# Altium footprint library Air_PCB.PcbLib: 8 footprints
Each footprint in its own frame and in the unit in brackets; x right, y up, seen from the top. Pads: shape width x height; smd on the part's side, far side on the other; paste and mask are expansions set on the pad; w line width, h text height; cw(c..) or ccw(c..) is an arc to the next point about the centre after c.
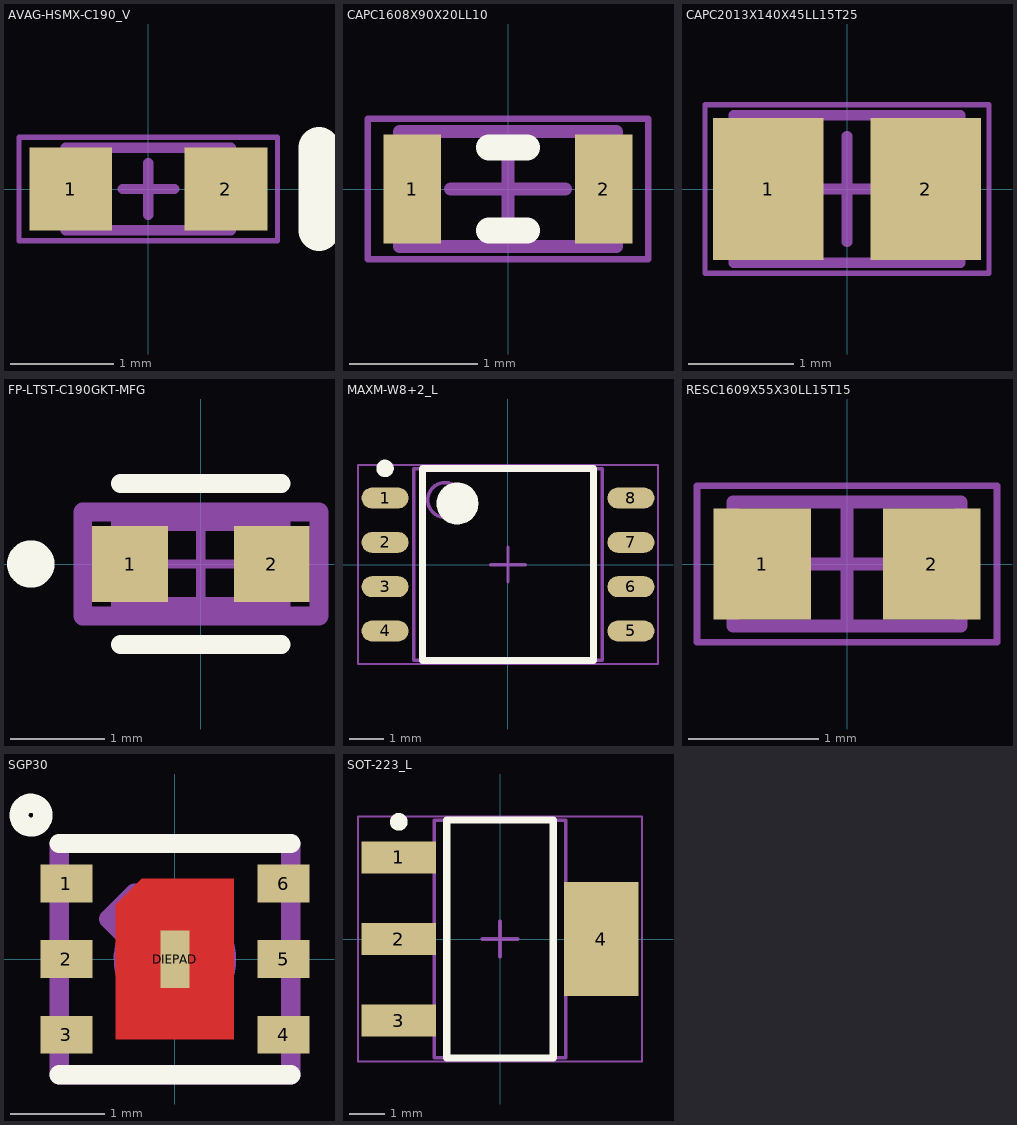
[diagram p0: the footprints below, top view; thin cyan lines are the x and y axes]

## AVAG-HSMX-C190_V [mm] "SMD, 2-Leads, Body 1.6x0.8mm, Height 0.9mm"
height 0.9
pads (2):
  rect 0.8x0.8 smd: 1(-0.75,0) 2(0.75,0)
Top Overlay:
  lines w0.4: 1.65,-0.4 1.65,0.4
Mechanical 13:
  lines w0.1: -0.8,-0.4 0.8,-0.4 0.8,0.4 -0.8,0.4 -0.8,-0.4
Mechanical 15:
  lines w0.05: -1.25,-0.5 -1.25,0.5 1.25,0.5 1.25,-0.5 -1.25,-0.5
  lines w0.1: -0.25,0 0.25,0 ; 0,-0.25 0,0.25
3D body: height 0.4, standoff 0, extent -0.546,-0.419 1.054,0.381
3D body: height 0.9, standoff 0.4, extent -0.55,-0.4 0.55,0.4

## CAPC1608X90X20LL10 [mm] "Chip Capacitor, 2-Leads, Body 1.70x0.90mm, IPC High Density"
height 0.9
pads (2):
  rect 0.45x0.85 smd: 1(-0.75,0) 2(0.75,0)
Top Overlay:
  lines w0.2: -0.15,-0.325 0.15,-0.325 ; -0.15,0.325 0.15,0.325
Mechanical 13:
  lines w0.1: -0.85,-0.45 -0.85,0.45 0.85,0.45 0.85,-0.45 -0.85,-0.45
Mechanical 15:
  lines w0.05: -1.1,-0.55 -1.1,0.55 1.1,0.55 1.1,-0.55 -1.1,-0.55
  lines w0.1: -0.45,0 0.45,0 ; 0,-0.45 0,0.45
3D body: height 0.9, standoff 0, extent -0.65,-0.45 0.65,0.45
3D body: height 0.9, standoff 0, extent -0.85,-0.45 -0.65,0.45
3D body: height 0.9, standoff 0, extent 0.65,-0.45 0.85,0.45

## CAPC2013X140X45LL15T25 [mm] "Chip Capacitor, 2-Leads, Body 2.00x1.25mm, IPC High Density"
height 1.4
pads (2):
  rect 1.05x1.35 smd: 1(-0.75,0) 2(0.75,0)
Mechanical 13:
  lines w0.1: -1.075,-0.7 -1.075,0.7 1.075,0.7 1.075,-0.7 -1.075,-0.7
Mechanical 15:
  lines w0.05: -1.35,-0.8 -1.35,0.8 1.35,0.8 1.35,-0.8 -1.35,-0.8
  lines w0.1: -0.5,0 0.5,0 ; 0,-0.5 0,0.5
3D body: height 1.4, standoff 0, extent -0.625,-0.7 0.625,0.7
3D body: height 1.4, standoff 0, extent -1.075,-0.7 -0.625,0.7
3D body: height 1.4, standoff 0, extent 0.625,-0.7 1.075,0.7

## FP-LTST-C190GKT-MFG [mm]
pads (2):
  rect 0.8x0.8 smd paste+0 mask+0: 1(-0.75,0) 2(0.75,0)
Top Overlay:
  circle w0.25: c-1.8,0 r0.125
  lines w0.2: -0.85,-0.85 0.85,-0.85 ; -0.85,0.85 0.85,0.85
Top 3D Body:
  lines w0.2: -0.85,-0.45 0.85,-0.45 0.85,0.45 -0.85,0.45 -0.85,-0.45
Top Courtyard:
  lines w0.2: -1.25,-0.55 1.25,-0.55 1.25,0.55 -1.25,0.55 -1.25,-0.55
Top Assembly:
  lines w0.2: -1.25,-0.55 1.25,-0.55 1.25,0.55 -1.25,0.55 -1.25,-0.55
  text ".Designator" at 0,0 h1
Top Component Center:
  lines w0.1: -0.5,0 0.5,0 ; 0,-0.5 0,0.5
3D body "Diode_Lite-On_LTST-C190GKT_eec.STEP": height 0.25, standoff 0, extent -1.25,-0.55 1.25,0.55

## MAXM-W8+2_L [mm] "SOIC, 8-Leads, Body 5.31x5.285mm, Pitch 1.27mm, IPC High Density"
height 2.13
pads (8):
  oval 1.35x0.6 smd: 1(-3.525,1.905) 2(-3.525,0.635) 3(-3.525,-0.635) 4(-3.525,-1.905) 5(3.525,-1.905) 6(3.525,-0.635) 7(3.525,0.635) 8(3.525,1.905)
Top Overlay:
  circle w0.6: c-1.45,1.75 r0.3
  circle w0.25: c-3.525,2.755 r0.125
  lines w0.2: -2.45,-2.75 2.45,-2.75 2.45,2.75 -2.45,2.75 -2.45,-2.75
Mechanical 13:
  circle w0.1: c-1.8,1.85 r0.5
  lines w0.1: -2.7,-2.75 2.7,-2.75 2.7,2.75 -2.7,2.75 -2.7,-2.75
Mechanical 15:
  lines w0.05: -4.3,-2.85 4.3,-2.85 4.3,2.85 -4.3,2.85 -4.3,-2.85
  lines w0.1: -0.5,0 0.5,0 ; 0,-0.5 0,0.5
3D body: height 2.13, standoff 0.05, extent -2.7,-2.75 2.7,2.75

## RESC1609X55X30LL15T15 [mm] "Chip Resistor, 2-Leads, Body 1.75x0.95mm, IPC High Density"
height 0.55
pads (2):
  rect 0.75x0.85 smd: 1(-0.65,0) 2(0.65,0)
Mechanical 13:
  lines w0.1: -0.875,-0.475 -0.875,0.475 0.875,0.475 0.875,-0.475 -0.875,-0.475
Mechanical 15:
  lines w0.05: -1.15,-0.6 -1.15,0.6 1.15,0.6 1.15,-0.6 -1.15,-0.6
  lines w0.1: -0.475,0 0.475,0 ; 0,-0.475 0,0.475
3D body "RESC1608X06L.step": height 0.55, standoff 0, extent -0.875,-0.475 0.875,0.475

## SGP30 [mm]
pads (7):
  rect 0.55x0.4 smd paste-1: 1(-1.15,0.8) 2(-1.15,0) 3(-1.15,-0.8) 4(1.15,-0.8) 5(1.15,0) 6(1.15,0.8)
  rect 0.305x0.61 smd paste-1 mask+0: DIEPAD(0,0)
Top Layer:
  region: 0.625,-0.85 -0.625,-0.85 -0.625,0.575 -0.35,0.85 0.625,0.85
Top Overlay:
  circle w0.203: c-1.524,1.524 r0.127
  lines w0.203: -1.225,-1.225 1.225,-1.225 ; -1.225,1.225 1.225,1.225
Top Paste:
  region: -0.975,0.6 -1.525,0.6 -1.525,1 -0.975,1
  region: -0.975,-0.2 -1.525,-0.2 -1.525,0.2 -0.975,0.2
  region: -0.975,-1 -1.525,-1 -1.525,-0.6 -0.975,-0.6
  region: 1.525,0.6 0.975,0.6 0.975,1 1.525,1
  region: 1.525,-0.2 0.975,-0.2 0.975,0.2 1.525,0.2
  region: 1.525,-1 0.975,-1 0.975,-0.6 1.525,-0.6
  region: 0.3,-0.425 -0.3,-0.425 -0.3,0.425 0.3,0.425
Top Solder:
  region: 0.725,-0.95 -0.725,-0.95 -0.725,0.625 -0.4,0.95 0.725,0.95
Mechanical 13:
  lines w0.203: -0.525,0.25 -0.7,0.425 -0.425,0.7 -0.225,0.5 ; -0.501,0.223 ccw(c0,0) -0.223,0.501 ; -1.225,-1.225 1.225,-1.225 1.225,1.225 -1.225,1.225 -1.225,-1.225

## SOT-223_L [mm] "SOT223, 4-Leads, Body 6.5x3.5mm, Pitch 2.3mm, Lead Span 7mm, IPC High Density"
height 1.8
pads (4):
  rect 2.1x0.9 smd: 1(-2.85,2.3) 2(-2.85,0) 3(-2.85,-2.3)
  rect 2.1x3.2 smd: 4(2.85,0)
Top Overlay:
  circle w0.25: c-2.85,3.3 r0.125
  lines w0.2: -1.5,-3.35 -1.5,3.35 1.5,3.35 1.5,-3.35 -1.5,-3.35
Mechanical 13:
  lines w0.1: -1.85,-3.35 -1.85,3.35 1.85,3.35 1.85,-3.35 -1.85,-3.35
Mechanical 15:
  lines w0.05: -4,-3.45 -4,3.45 4,3.45 4,-3.45 -4,-3.45
  lines w0.1: -0.5,0 0.5,0 ; 0,-0.5 0,0.5
3D body: height 1.8, standoff 0.02, extent -1.85,-3.35 1.85,3.35